# EAGLE library part NRF51822-RIGHT (library icarus_sensors)
right connector of NFR518822 board
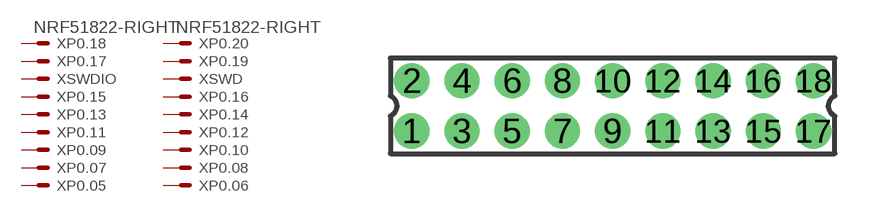
[diagram p8: symbol with the pads of NRF51822-RIGHT; footprint NRF51822-RIGHT]

Designator prefix X; gates P0.05=M P0.06=M P0.07=M P0.08=M P0.09=M P0.10=M P0.11=M P0.12=M P0.13=M P0.14=M P0.15=M P0.16=M P0.17=M P0.18=MV P0.19=M P0.20=MV SWD=M SWDIO=M

## NRF51822-RIGHT (MPN: NRF51822-right; OC_FARNELL: unknown; OC_NEWARK: 25M5675)  [NRF51822-RIGHT]
1  P0.18:S  pas
2  P0.20:S  pas
3  P0.17:S  pas
4  P0.19:S  pas
5  SWDIO:S  pas
6  SWD:S  pas
7  P0.15:S  pas
8  P0.16:S  pas
9  P0.13:S  pas
10  P0.14:S  pas
11  P0.11:S  pas
12  P0.12:S  pas
13  P0.09:S  pas
14  P0.10:S  pas
15  P0.07:S  pas
16  P0.08:S  pas
17  P0.05:S  pas
18  P0.06:S  pas

## Footprint NRF51822-RIGHT (pad centres in mm)
18 Pin - 2mm Dual Row Single Wafer, Vertical T/H HDR Source: http://www.molex.com/pdm_docs/sd/877580616_sd.pdf
drill 0.9 pad 1.27: 1 -8,-1; 2 -8,1; 3 -6,-1; 4 -6,1; 5 -4,-1; 6 -4,1; 7 -2,-1; 8 -2,1; 9 0,-1; 10 0,1; 11 2,-1; 12 2,1; 13 4,-1; 14 4,1; 15 6,-1; 16 6,1; 17 8,-1; 18 8,1